# EAGLE library part ARDUINO_ASTAR_MICRO (library 04_IC)
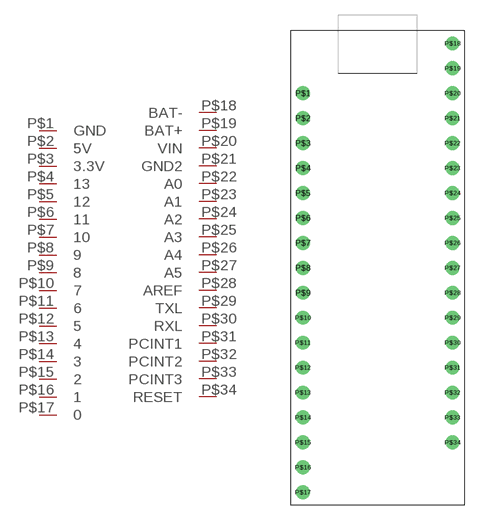
[diagram p6: symbol with the pads of ARDUINO_ASTAR_MICRO; footprint ARDUINO_ASTAR_MICRO]

Designator prefix -

## ARDUINO_ASTAR_MICRO  [ARDUINO_ASTAR_MICRO]
P$1  GND
P$2  5V
P$3  3.3V
P$4  13
P$5  12
P$6  11
P$7  10
P$8  9
P$9  8
P$10  7
P$11  6
P$12  5
P$13  4
P$14  3
P$15  2
P$16  1
P$17  0
P$18  BAT-
P$19  BAT+
P$20  VIN
P$21  GND2
P$22  A0
P$23  A1
P$24  A2
P$25  A3
P$26  A4
P$27  A5
P$28  AREF
P$29  TXL
P$30  RXL
P$31  PCINT1
P$32  PCINT2
P$33  PCINT3
P$34  RESET

## Footprint ARDUINO_ASTAR_MICRO (pad centres in mm)
drill 0.9: P$1 -7.62,0; P$2 -7.62,-2.54; P$3 -7.62,-5.08; P$4 -7.62,-7.62; P$5 -7.62,-10.16; P$6 -7.62,-12.7; P$7 -7.62,-15.24; P$8 -7.62,-17.78; P$9 -7.62,-20.32; P$10 -7.62,-22.86; P$11 -7.62,-25.4; P$12 -7.62,-27.94; P$13 -7.62,-30.48; P$14 -7.62,-33.02; P$15 -7.62,-35.56; P$16 -7.62,-38.1; P$17 -7.62,-40.64; P$18 7.62,5.08; P$19 7.62,2.54; P$20 7.62,0; P$21 7.62,-2.54; P$22 7.62,-5.08; P$23 7.62,-7.62; P$24 7.62,-10.16; P$25 7.62,-12.7; P$26 7.62,-15.24; P$27 7.62,-17.78; P$28 7.62,-20.32; P$29 7.62,-22.86; P$30 7.62,-25.4; P$31 7.62,-27.94; P$32 7.62,-30.48; P$33 7.62,-33.02; P$34 7.62,-35.56